# EAGLE library part RFM50 (library ipas)
RFM50 Module for Silabs Wireless SoC, Si1000.
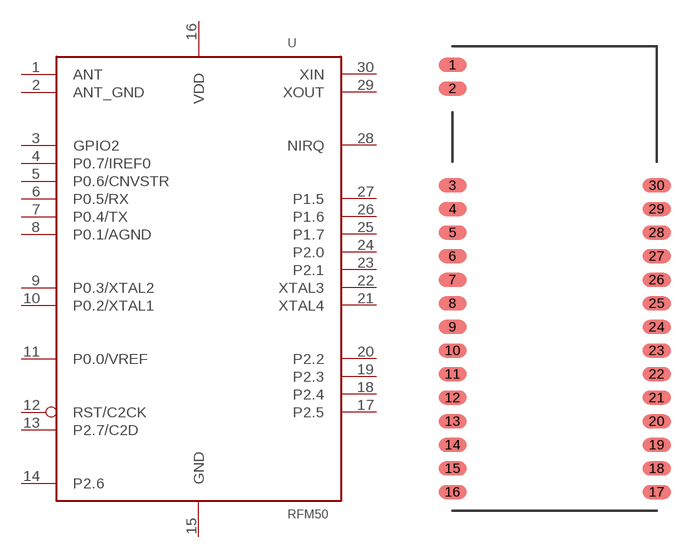
[diagram p10: symbol with the pads of RFM50; footprint RFM50]

Designator prefix U

## RFM50  [RFM50]
1  ANT
2  ANT_GND
3  GPIO2
4  P0.7/IREF0
5  P0.6/CNVSTR
6  P0.5/RX
7  P0.4/TX
8  P0.1/AGND
9  P0.3/XTAL2
10  P0.2/XTAL1
11  P0.0/VREF
12  RST/C2CK
13  P2.7/C2D
14  P2.6
15  GND
16  VDD  pwr
17  P2.5
18  P2.4
19  P2.3
20  P2.2
21  XTAL4
22  XTAL3
23  P2.1
24  P2.0
25  P1.7
26  P1.6
27  P1.5
28  NIRQ  out
29  XOUT  out
30  XIN  in

## Footprint RFM50 (pad centres in mm)
smd 1.524 x 0.762: 1 0,23; 2 0,21.73; 3 0,16.51; 4 0,15.24; 5 0,13.97; 6 0,12.7; 7 0,11.43; 8 0,10.16; 9 0,8.89; 10 0,7.62; 11 0,6.35; 12 0,5.08; 13 0,3.81; 14 0,2.54; 15 0,1.27; 16 0,0; 17 11,0; 18 11,1.27; 19 11,2.54; 20 11,3.81; 21 11,5.08; 22 11,6.35; 23 11,7.62; 24 11,8.89; 25 11,10.16; 26 11,11.43; 27 11,12.7; 28 11,13.97; 29 11,15.24; 30 11,16.51